# EAGLE library part WE-RJ45_LAN_1000_BASET_STD_GREEN/YELLOW_GREEN_B (library Wuerth_Elektronik_eiSos_Version_6-12)
WE-RJ45 LAN Transformer 1000 BaseT, STD with LED - RJ45 connector with integrated transformer common mode choke - 350 µH min.OCL with 8 mA bias - Complies with IEEE 802.3 - Extended temperature range from 0°C to +70°C available -- ADSL Modem -- Embedded PC -- LAN network applications -- Hub, Router, Switches
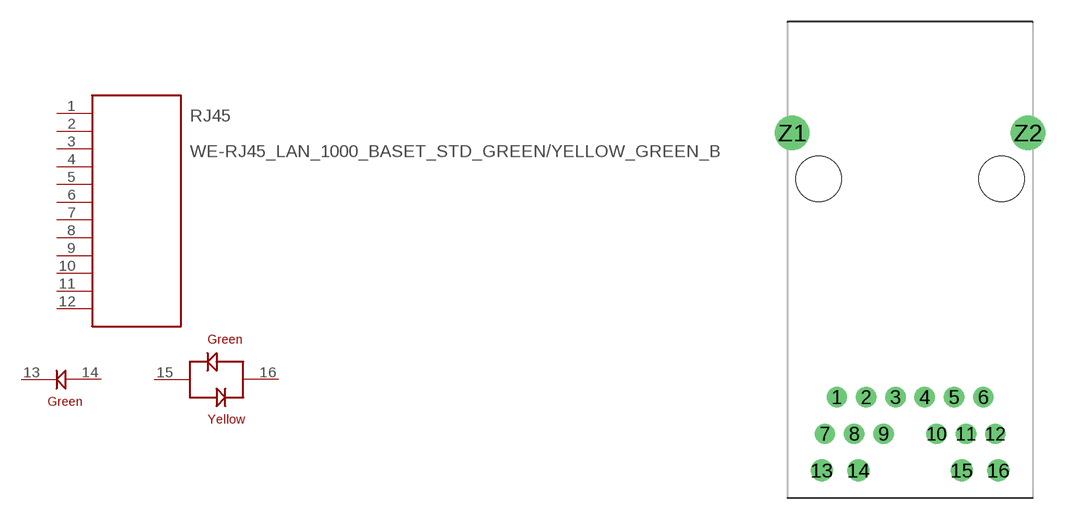
[diagram p117: symbol with the pads of WE-RJ45_LAN_1000_BASET_7499111421**; footprint WE-RJ45_LAN_1000_BASET_7499111421**]

Designator prefix RJ45

## WE-RJ45_LAN_1000_BASET_STD_GREEN/YELLOW_GREEN_B_7499111421  [WE-RJ45_LAN_1000_BASET_7499111421**]
1  1  pas
2  2  pas
3  3  pas
4  4  pas
5  5  pas
6  6  pas
7  7  pas
8  8  pas
9  9  pas
10  10  pas
11  11  pas
12  12  pas
13  13  pas
14  14  pas
15  15  pas
16  16  pas

## Footprint WE-RJ45_LAN_1000_BASET_7499111421** (pad centres in mm)
WE-RJ45 LAN Transformer 1000 BaseT, STD with LED
drill 0.9 round: 1 -5.075,-15.14; 2 -3.045,-15.14; 3 -1.015,-15.14; 4 1.015,-15.14; 5 3.045,-15.14; 6 5.075,-15.14; 7 -5.9,-17.68; 8 -3.87,-17.68; 9 -1.84,-17.68; 10 1.84,-17.68; 11 3.87,-17.68; 12 5.9,-17.68
drill 1.02 round: 13 -6.12,-20.22; 14 -3.58,-20.22; 15 3.58,-20.22; 16 6.12,-20.22
drill 1.6 round: Z1 -8.175,3.18; Z2 8.175,3.18
hole 3.15 at -6.35,0
hole 3.15 at 6.35,0